# EAGLE library part SD_MMC_CARD (library Arduino pcbs)
SD MMC Card Footprint Mechanical footprint with connectors of an SD/MMC card- NOT a socket! SparkFun Products: Electric Imp <https://www.sparkfun.com/products/11395> microSD Card with SD adapter <https://www.sparkfun.com/products/13833>
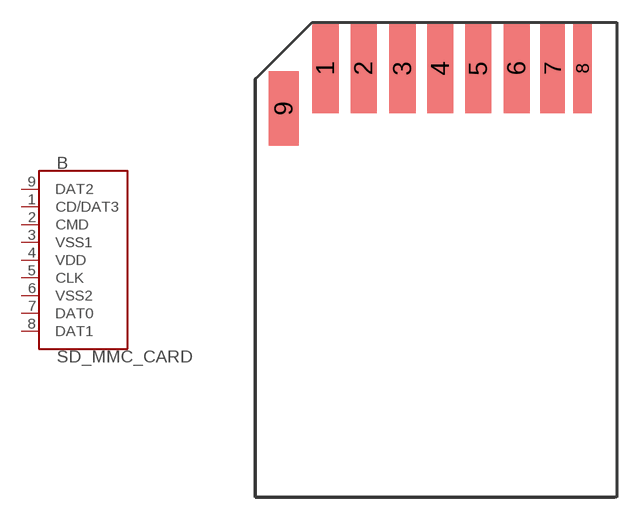
[diagram p3: symbol with the pads of SD-MMC-CARD; footprint SD-MMC-CARD]

Designator prefix B

## SD_MMC_CARDSD_PCB  [SD-MMC-CARD]
1  CD/DAT3
2  CMD
3  VSS1
4  VDD
5  CLK
6  VSS2
7  DAT0
8  DAT1
9  DAT2

## Footprint SD-MMC-CARD (pad centres in mm)
SD MMC Card Footprint Basic reference with pads for SMD mounting of SD card. Specifications: Pin count:9 Area:0.95x1.25 inch Example device(s): SD Card
smd 1.75 x 6: 1 -8.015,14.713; 2 -5.465,14.703; 3 -2.87,14.703; 4 -0.34,14.703; 5 2.195,14.703; 6 4.76,14.703
smd 1.65 x 6: 7 7.16,14.703
smd 1.25 x 6: 8 9.16,14.703
smd 2 x 5: 9 -10.8,12.03